# EAGLE library part MC14044BCPG (library On Semiconductor)
CMOS MSI
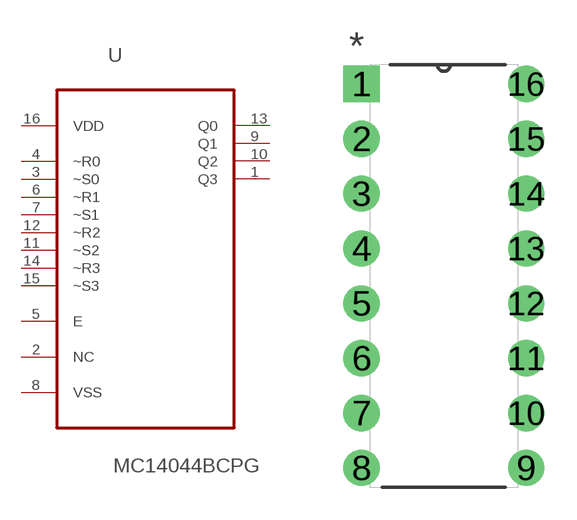
[diagram p230: symbol with the pads of DIP254P762X444-16; footprint DIP254P762X444-16]

Designator prefix U

## MC14044BCPG (MPN: MC14044BCPG; OC_FARNELL: 9664653; OC_NEWARK: 45J1050; PACKAGE: PDIP-16; SUPPLIER: On semiconductors)  [DIP254P762X444-16]
1  Q3  out
2  NC  nc
3  ~S0  in
4  ~R0  in
5  E  in
6  ~R1  in
7  ~S1  in
8  VSS  pwr
9  Q1  out
10  Q2  out
11  ~S2  in
12  ~R2  in
13  Q0  out
14  ~R3  in
15  ~S3  in
16  VDD  pwr

## Footprint DIP254P762X444-16 (pad centres in mm)
drill 1.118 square: 1 -7.62,17.78
drill 1.118: 2 -7.62,15.24; 3 -7.62,12.7; 4 -7.62,10.16; 5 -7.62,7.62; 6 -7.62,5.08; 7 -7.62,2.54; 8 -7.62,0; 9 0,0; 10 0,2.54; 11 0,5.08; 12 0,7.62; 13 0,10.16; 14 0,12.7; 15 0,15.24; 16 0,17.78